# EAGLE library part IF_USB_PD_STUSB4500QTR (library !GPLIB_ACTIVE)
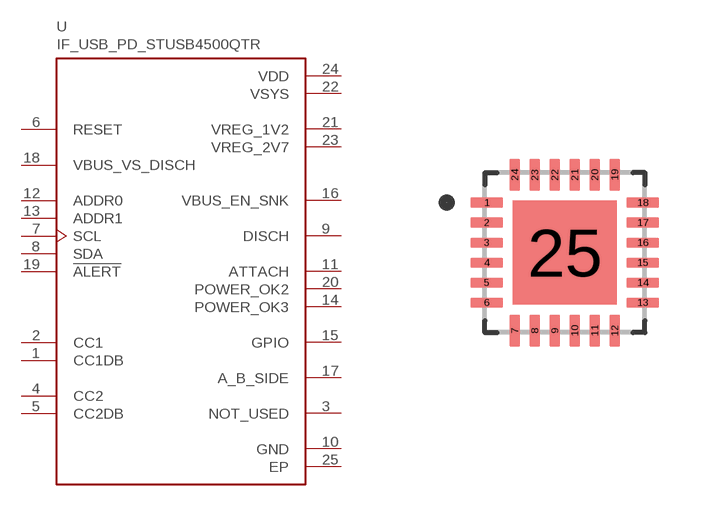
[diagram p86: symbol with the pads of QFN50P400X400X90-25N; footprint QFN50P400X400X90-25N]

Designator prefix U

## IF_USB_PD_STUSB4500QTR_STUSB4500QTR  [QFN50P400X400X90-25N]
1  CC1DB
2  CC1
3  NOT_USED  hiz
4  CC2
5  CC2DB
6  RESET  in
7  SCL  in
8  SDA
9  DISCH
10  GND  pwr
11  ATTACH  out
12  ADDR0  in
13  ADDR1  in
14  POWER_OK3  out
15  GPIO  out
16  VBUS_EN_SNK  out
17  A_B_SIDE  out
18  VBUS_VS_DISCH  in
19  !ALERT  out
20  POWER_OK2  out
21  VREG_1V2  out
22  VSYS  pwr
23  VREG_2V7  out
24  VDD  pwr
25  EP  pwr

## Footprint QFN50P400X400X90-25N (pad centres in mm)
smd 0.81 x 0.26: 1 -1.95,1.25; 2 -1.95,0.75; 3 -1.95,0.25; 4 -1.95,-0.25; 5 -1.95,-0.75; 6 -1.95,-1.25; 13 1.95,-1.25; 14 1.95,-0.75; 15 1.95,-0.25; 16 1.95,0.25; 17 1.95,0.75; 18 1.95,1.25
smd 0.26 x 0.81: 7 -1.25,-1.95; 8 -0.75,-1.95; 9 -0.25,-1.95; 10 0.25,-1.95; 11 0.75,-1.95; 12 1.25,-1.95; 19 1.25,1.95; 20 0.75,1.95; 21 0.25,1.95; 22 -0.25,1.95; 23 -0.75,1.95; 24 -1.25,1.95
smd 2.6 x 2.6: 25 0,0